# EAGLE library part TPS63001-VSON (library TPS63001)
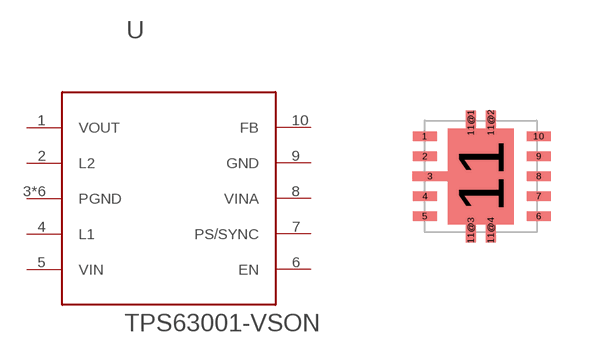
[diagram p0: symbol with the pads of TPS63001-VSON; footprint TPS63001-VSON]

Designator prefix -

## TPS63001-VSON  [TPS63001-VSON]
1  VOUT
2  L2
3  PGND
4  L1
5  VIN
6  EN
7  PS/SYNC
8  VINA
9  GND
10  FB
11  PGND
11@1  PGND
11@2  PGND
11@3  PGND
11@4  PGND

## Footprint TPS63001-VSON (pad centres in mm)
smd 0.6 x 0.24: 1 -1.4,1; 2 -1.4,0.5; 4 -1.4,-0.5; 5 -1.4,-1; 6 1.45,-1; 7 1.45,-0.5; 8 1.45,0; 9 1.45,0.5; 10 1.45,1
smd 0.889 x 0.24: 3 -1.273,0
smd 1.65 x 2.4: 11 0,0
smd 0.24 x 0.6: 11@1 -0.25,1.35; 11@2 0.25,1.35; 11@3 -0.25,-1.35; 11@4 0.25,-1.35